# Altium footprint library CAP_22nfar_805pkg.PcbLib: 3 footprints
Each footprint in its own frame and in the unit in brackets; x right, y up, seen from the top. Pads: shape width x height; smd on the part's side, far side on the other; paste and mask are expansions set on the pad; w line width, h text height; cw(c..) or ccw(c..) is an arc to the next point about the centre after c.
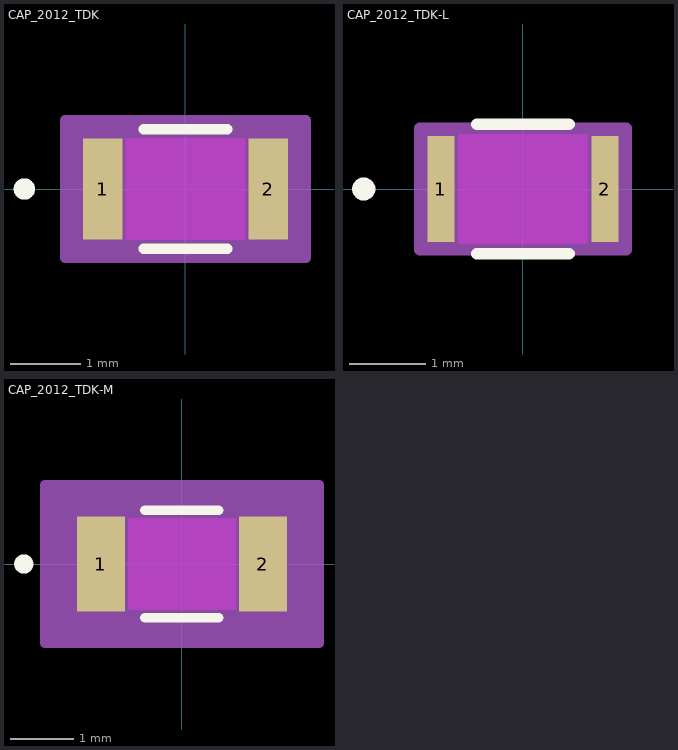
[diagram p0: the footprints below, top view; thin cyan lines are the x and y axes]

## CAP_2012_TDK [mil]
pads (2):
  rect 22x57 smd paste+0 mask+0: 1(-46.5,0) 2(46.5,0)
Top Layer keep-out:
  region: -33.5,-26.5 -33.5,26.5 33.5,26.5 33.5,-26.5
Top Overlay:
  circle w6: c-90.5,0 r3
  lines w6: -23.39,-33.5 23.39,-33.5 ; -23.39,33.5 23.39,33.5
Keep-Out Layer:
  region: -33.5,-28.5 -33.5,28.5 33.5,28.5 33.5,-28.5
Mechanical 13:
  circle w0: c-41.5,0 r3
  lines w1: -43.5,-28.5 -43.5,28.5 ; -43.5,-28.5 -35.5,-28.5 -35.5,28.5 -43.5,28.5 ; -43.5,-28.5 43.5,-28.5 ; -43.5,-28.5 -43.5,28.5 ; -43.5,28.5 43.5,28.5 ; 43.5,-28.5 35.5,-28.5 35.5,28.5 43.5,28.5 ; 43.5,-28.5 43.5,28.5 ; 43.5,-28.5 43.5,28.5
Mechanical 15:
  region: 67.5,-38.5 -67.5,-38.5 -67.5,38.5 67.5,38.5
  lines w6: -67.5,-38.5 -67.5,38.5 67.5,38.5 67.5,-38.5 -67.5,-38.5
3D body "CAP_2012_TDK.step": height 49.02, standoff 0, extent -43.5,-28.5 43.5,28.5

## CAP_2012_TDK-L [mil]
pads (2):
  rect 14x55 smd paste+0 mask+0: 1(-42.5,0) 2(42.5,0)
Top Layer keep-out:
  region: -33.5,-26.5 -33.5,26.5 33.5,26.5 33.5,-26.5
Top Overlay:
  circle w6: c-82.5,0 r3
  lines w6: -23.85,-33.5 23.85,-33.5 ; -23.85,33.5 23.85,33.5
Keep-Out Layer:
  region: -33.5,-28.5 -33.5,28.5 33.5,28.5 33.5,-28.5
Mechanical 13:
  circle w0: c-37.5,0 r3
  lines w1: -43.5,-28.5 -43.5,28.5 ; -43.5,-28.5 -35.5,-28.5 -35.5,28.5 -43.5,28.5 ; -43.5,-28.5 43.5,-28.5 ; -43.5,-28.5 -43.5,28.5 ; -43.5,28.5 43.5,28.5 ; 43.5,-28.5 35.5,-28.5 35.5,28.5 43.5,28.5 ; 43.5,-28.5 43.5,28.5 ; 43.5,-28.5 43.5,28.5
Mechanical 15:
  region: 53.5,-31.5 -53.5,-31.5 -53.5,31.5 53.5,31.5
  lines w6: -53.5,-31.5 -53.5,31.5 53.5,31.5 53.5,-31.5 -53.5,-31.5
3D body "CAP_2012_TDK.step": height 49.02, standoff 0, extent -43.5,-28.5 43.5,28.5

## CAP_2012_TDK-M [mil]
pads (2):
  rect 30x59 smd paste+0 mask+0: 1(-50.5,0) 2(50.5,0)
Top Layer keep-out:
  region: -33.5,-26.5 -33.5,26.5 33.5,26.5 33.5,-26.5
Top Overlay:
  circle w6: c-98.5,0 r3
  lines w6: -23.03,-33.5 23.03,-33.5 ; -23.03,33.5 23.03,33.5
Keep-Out Layer:
  region: -33.5,-28.5 -33.5,28.5 33.5,28.5 33.5,-28.5
Mechanical 13:
  circle w0: c-45.5,0 r3
  lines w1: -43.5,-28.5 -43.5,28.5 ; -43.5,-28.5 -35.5,-28.5 -35.5,28.5 -43.5,28.5 ; -43.5,-28.5 43.5,-28.5 ; -43.5,-28.5 -43.5,28.5 ; -43.5,28.5 43.5,28.5 ; 43.5,-28.5 35.5,-28.5 35.5,28.5 43.5,28.5 ; 43.5,-28.5 43.5,28.5 ; 43.5,-28.5 43.5,28.5
Mechanical 15:
  region: 85.5,-49.5 -85.5,-49.5 -85.5,49.5 85.5,49.5
  lines w6: -85.5,-49.5 -85.5,49.5 85.5,49.5 85.5,-49.5 -85.5,-49.5
3D body "CAP_2012_TDK.step": height 49.02, standoff 0, extent -43.5,-28.5 43.5,28.5